# EAGLE library part FT232H (library n39)
FT232H/HL http://www.ftdichip.com/Products/ICs/FT232H.htm The FT232H is a single channel USB 2.0 Hi-Speed (480Mb/s) to UART/FIFO IC. It has the capability of being configured in a variety of industry standard serial or parallel interfaces.
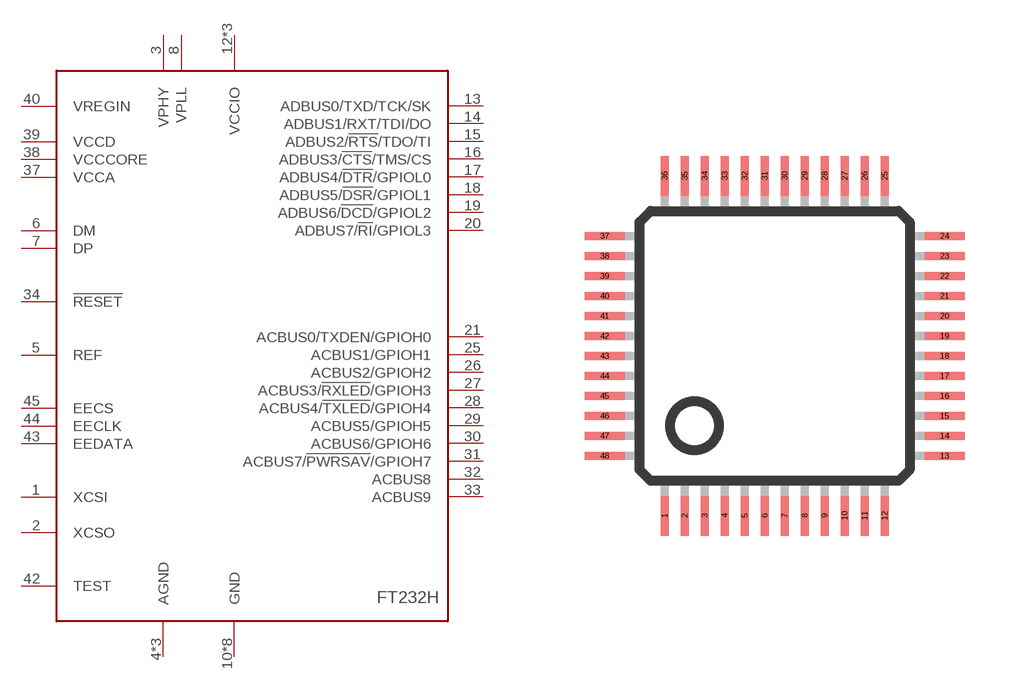
[diagram p12: symbol with the pads of LQFP48; footprint LQFP48]

Designator prefix -

## FT232H (REICHELT: FT 232 HL)  [LQFP48]
1  XCSI
2  XCSO
3  VPHY  pwr
4  AGND  pwr
5  REF
6  DM
7  DP
8  VPLL  pwr
9  AGND  pwr
10  GND  pwr
11  GND  pwr
12  VCCIO  pwr
13  ADBUS0/TXD/TCK/SK
14  ADBUS1/RXT/TDI/DO
15  ADBUS2/!RTS!/TDO/TI
16  ADBUS3/!CTS!/TMS/CS
17  ADBUS4/!DTR!/GPIOL0
18  ADBUS5/!DSR!/GPIOL1
19  ADBUS6/!DCD!/GPIOL2
20  ADBUS7/!RI!/GPIOL3
21  ACBUS0/TXDEN/GPIOH0
22  GND  pwr
23  GND  pwr
24  VCCIO  pwr
25  ACBUS1/GPIOH1
26  ACBUS2/GPIOH2
27  ACBUS3/!RXLED!/GPIOH3
28  ACBUS4/!TXLED!/GPIOH4
29  ACBUS5/GPIOH5
30  ACBUS6/GPIOH6
31  ACBUS7/!PWRSAV!/GPIOH7
32  ACBUS8
33  ACBUS9
34  !RESET  in
35  GND  pwr
36  GND  pwr
37  VCCA  pwr
38  VCCCORE  pwr
39  VCCD  pwr
40  VREGIN  pwr
41  AGND  pwr
42  TEST
43  EEDATA
44  EECLK
45  EECS
46  VCCIO  pwr
47  GND  pwr
48  GND  pwr

## Footprint LQFP48 (pad centres in mm)
48-pin plastic LQFP (FPT-48P-M26) www.fma.fujitsu.com/pdf/e713717.pdf
smd 0.2 x 1: 1 -2.75,-4.25; 2 -2.25,-4.25; 3 -1.75,-4.25; 4 -1.25,-4.25; 5 -0.75,-4.25; 6 -0.25,-4.25; 7 0.25,-4.25; 8 0.75,-4.25; 9 1.25,-4.25; 10 1.75,-4.25; 11 2.25,-4.25; 12 2.75,-4.25; 25 2.75,4.25; 26 2.25,4.25; 27 1.75,4.25; 28 1.25,4.25; 29 0.75,4.25; 30 0.25,4.25; 31 -0.25,4.25; 32 -0.75,4.25; 33 -1.25,4.25; 34 -1.75,4.25; 35 -2.25,4.25; 36 -2.75,4.25
smd 1 x 0.2: 13 4.25,-2.75; 14 4.25,-2.25; 15 4.25,-1.75; 16 4.25,-1.25; 17 4.25,-0.75; 18 4.25,-0.25; 19 4.25,0.25; 20 4.25,0.75; 21 4.25,1.25; 22 4.25,1.75; 23 4.25,2.25; 24 4.25,2.75; 37 -4.25,2.75; 38 -4.25,2.25; 39 -4.25,1.75; 40 -4.25,1.25; 41 -4.25,0.75; 42 -4.25,0.25; 43 -4.25,-0.25; 44 -4.25,-0.75; 45 -4.25,-1.25; 46 -4.25,-1.75; 47 -4.25,-2.25; 48 -4.25,-2.75